# Altium schematic symbol library ra8m1_unshielded.SCHLIB: 45 symbols
Pins are listed as number, name and electrical type; pins without a type are passive.

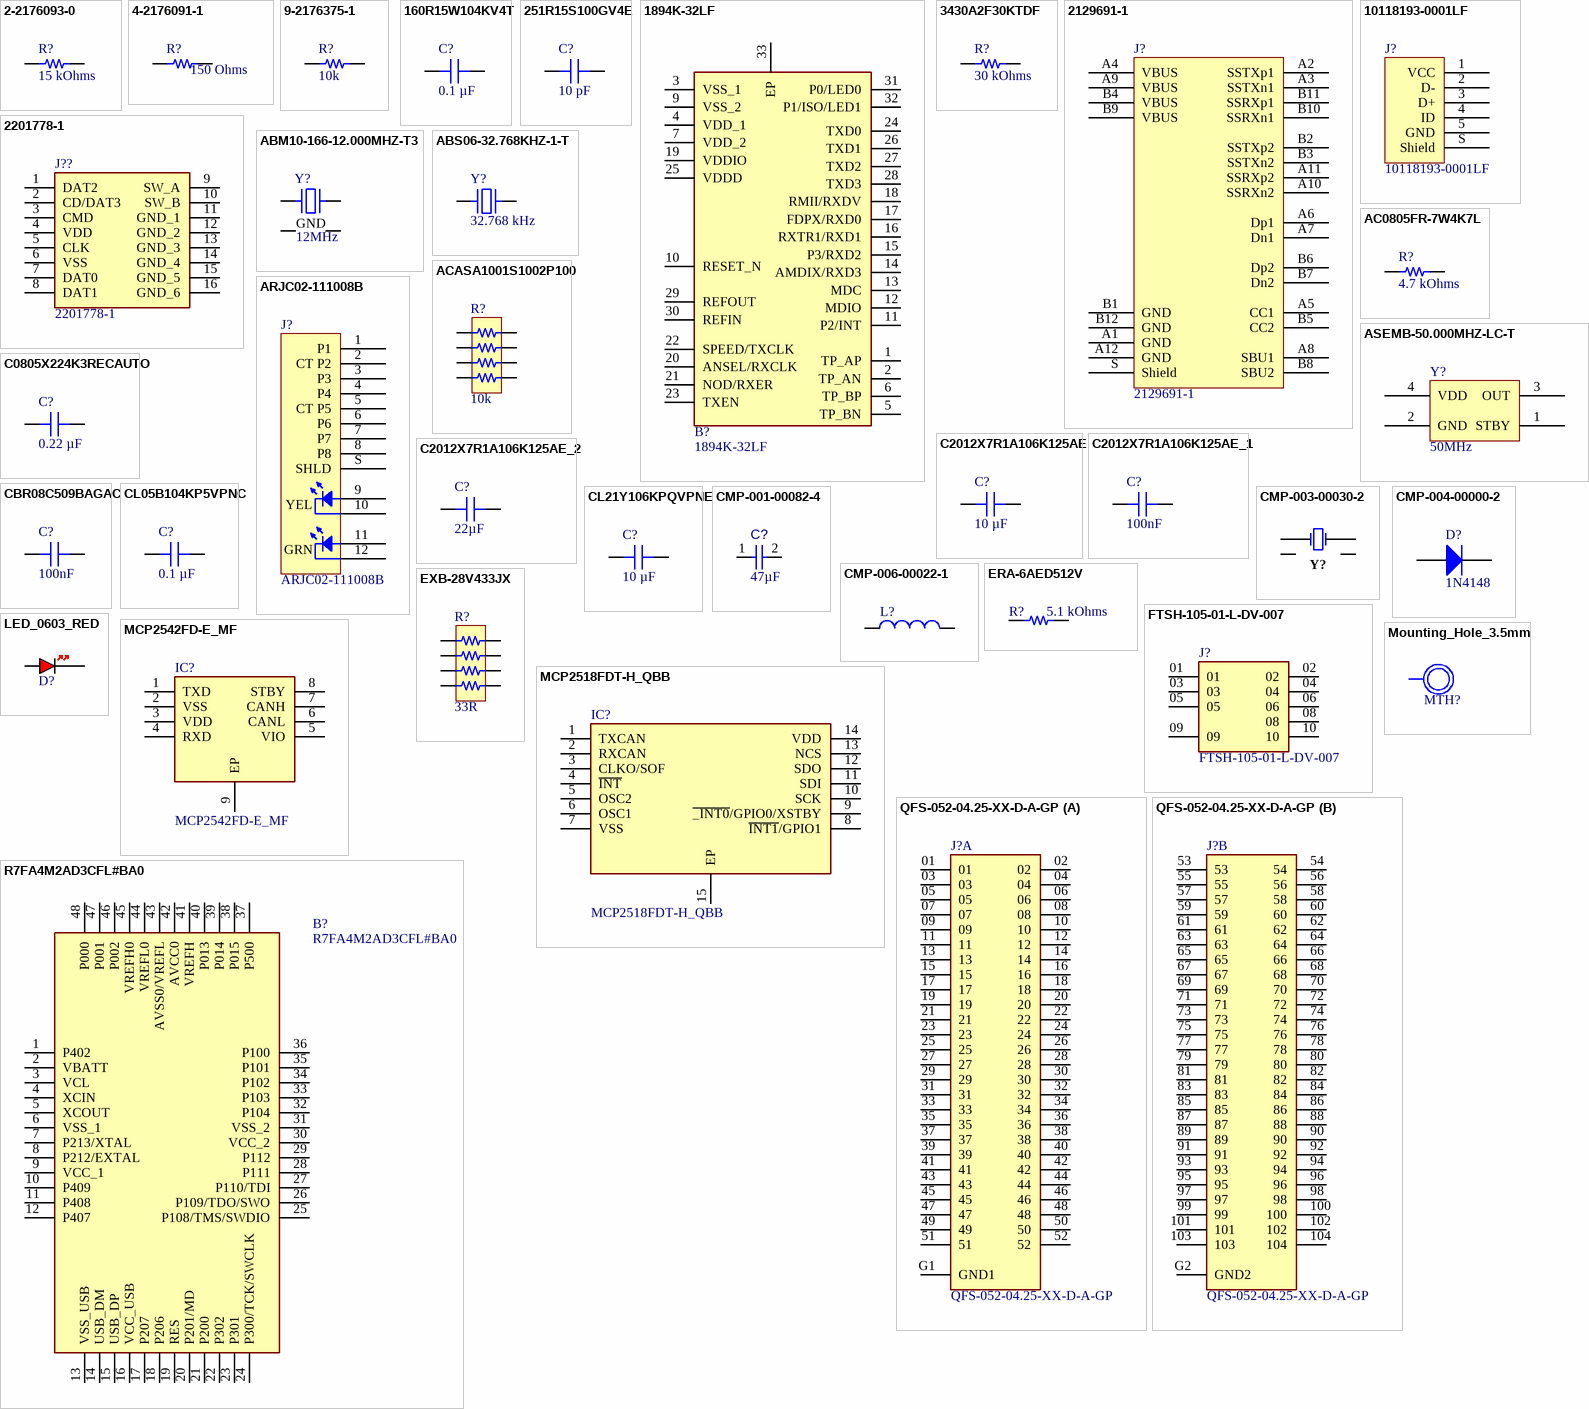
[diagram p0: symbols 2-2176093-0 to R7FA4M2AD3CFL#BA0]

## 2-2176093-0
designator R?, comment 15 kOhms
RES SMD 15K OHM 0.1% 1/4W 0805; Part Number: 2-2176093-0; Manufacturer: TE Connectivity Passive Product; Power (Watts): 0.25W, 1/4W; Temperature Coefficient: ±25ppm/°C; ComponentLink1Description: Datasheet; ComponentLink1URL: https://www.te.com/commerce/DocumentDelivery/DDEController?Action=srchrtrv&DocNm=1773272&DocType=DS&DocLang=English; ComponentLink2Description: DigiKey Link; ComponentLink2URL: https://www.digikey.com/en/products/detail/te-connectivity-passive-product/2-2176093-0/4034124; Composition: Thin Film; Device Package: 0805 (2012 Metric); Height - Seated (Max): 0.026" (0.65mm); LastUpdated: 03/02/2024 20:58:42; Lifecycle Status: Active; Minimum Order: 1; Number of Terminations: 2; Operating Temperature: -55°C ~ 155°C; Package / Case: 0805 (2012 Metric); Packaging: TapeAndReel; PartId: 44076; Part Status: Active; Price: 0.14; Resistance: 15 kOhms; Series: RP73P, Holsworthy; Size / Dimension: 0.079" L x 0.049" W (2.00mm x 1.25mm); Supplier 1: DigiKey; Supplier Part Number 1: A110656CT-ND; Supplier Device Package: 0805; Tolerance: ±0.1%; Value: 15 kOhms
footprint RES 0805_2012
pins: 1, 2

## 4-2176091-1
designator R?, comment 150 Ohms
RES SMD 150 OHM 0.1% 1/4W 0805; Part Number: 4-2176091-1; Manufacturer: TE Connectivity Passive Product; Power (Watts): 0.25W, 1/4W; Temperature Coefficient: ±25ppm/°C; Value: 150 Ohms; ComponentLink1Description: Datasheet; ComponentLink1URL: https://www.te.com/commerce/DocumentDelivery/DDEController?Action=srchrtrv&DocNm=1773272&DocType=DS&DocLang=English; ComponentLink2Description: DigiKey Link; ComponentLink2URL: https://www.digikey.com/en/products/detail/te-connectivity-passive-product/4-2176091-1/4033932; Composition: Thin Film; Device Package: 0805 (2012 Metric); Height - Seated (Max): 0.026" (0.65mm); LastUpdated: 04/02/2024 21:05:09; Lifecycle Status: Active; Minimum Order: 1; Number of Terminations: 2; Operating Temperature: -55°C ~ 155°C; Package / Case: 0805 (2012 Metric); Packaging: TapeAndReel; PartId: 28504; Part Status: Active; Price: 0.14; Resistance: 150 Ohms; Series: RP73P, Holsworthy; Size / Dimension: 0.079" L x 0.049" W (2.00mm x 1.25mm); Supplier 1: DigiKey; Supplier Part Number 1: A110464CT-ND; Supplier Device Package: 0805; Tolerance: ±0.1%
footprint RES 0805_2012
pins: 1, 2

## 9-2176375-1
designator R?, comment 10k
RES 10K OHM 0.1% 1/5W 0805; Part Number: 9-2176375-1; Manufacturer: TE Connectivity Passive Product; Power (Watts): 0.2W, 1/5W; Resistance: 10 kOhms; Temperature Coefficient: ±10ppm/°C; Value: 10k; ComponentLink1Description: Datasheet; ComponentLink1URL: https://www.te.com/usa-en/product-9-2176375-1.datasheet.pdf; ComponentLink2Description: DigiKey Link; ComponentLink2URL: https://www.digikey.com/en/products/detail/te-connectivity-passive-product/9-2176375-1/18110542; Composition: Thin Film; Device Package: 0805 (2012 Metric); Features: Anti-Sulfur, Automotive AEC-Q200, Moisture Resistant; Height - Seated (Max): 0.026" (0.65mm); LastUpdated: 04/02/2024 21:02:43; Lifecycle Status: Active; Minimum Order: 1; Number of Terminations: 2; Operating Temperature: -55°C ~ 155°C; Package / Case: 0805 (2012 Metric); Packaging: TapeAndReel; PartId: 76290; Part Status: Active; Price: 0.39; Ratings: AEC-Q200; Series: RQ73; Size / Dimension: 0.079" L x 0.049" W (2.00mm x 1.25mm); Supplier 1: DigiKey; Supplier Part Number 1: 1712-9-2176375-1CT-ND; Supplier Device Package: 0805; Tolerance: ±0.1%
footprint RES 0805_2012
pins: 1, 2

## 160R15W104KV4T
designator C?, comment 0.1 µF
CAP CER 0.1UF 16V X7R 0805; Part Number: 160R15W104KV4T; manufacturer: Johanson Dielectrics Inc.; Tolerance: ±10%; Value: 0.1 µF; Applications: General Purpose; Capacitance: 0.1 µF; componentlink1description: Datasheet; componentlink1url: https://www.johansondielectrics.com/downloads/catalog/johanson-dielectrics-product-catalog.pdf; componentlink2description: DigiKey Link; componentlink2url: https://www.digikey.com/en/products/detail/johanson-dielectrics-inc/160R15W104KV4T/1859428; Device Package: 0805 (2012 Metric); lastupdated: 03/02/2024 20:15:33; Lifecycle Status: Active; Minimum Order: 1; Mounting Type: Surface Mount, MLCC; Operating Temperature: -55°C ~ 125°C; Package / Case: 0805 (2012 Metric); packaging: TapeAndReel; partid: 9125; Part Status: Active; price: 0.03; series: -; Size / Dimension: 0.080" L x 0.050" W (2.03mm x 1.27mm); Supplier 1: DigiKey; Supplier Part Number 1: 709-1183-1-ND; Temperature Coefficient: X7R; Thickness (Max): 0.050" (1.27mm); Voltage - Rated: 16V
footprint CAP 0805_2012
pins: 1, 2

## 251R15S100GV4E
designator C?, comment 10 pF
CAP CER 10PF 250V NP0 0805; Part Number: 251R15S100GV4E; manufacturer: Johanson Technology Inc.; Temperature Coefficient: C0G, NP0; Tolerance: ±2%; Value: 10 pF; Applications: RF, Microwave, High Frequency; Capacitance: 10 pF; componentlink1description: Datasheet; componentlink1url: https://www.johansontechnology.com/downloads/catalog/johanson-technology-multi-layer-high-q-capacitors.pdf; componentlink2description: DigiKey Link; componentlink2url: https://www.digikey.com/en/products/detail/johanson-technology-inc/251R15S100GV4E/1919428; Device Package: 0805 (2012 Metric); Features: High Q, Low Loss, Ultra Low ESR; lastupdated: 03/02/2024 20:14:59; Lifecycle Status: Active; Minimum Order: 1; Mounting Type: Surface Mount, MLCC; Operating Temperature: -55°C ~ 125°C; Package / Case: 0805 (2012 Metric); packaging: TapeAndReel; partid: 18355; Part Status: Active; price: 0.14; series: S; Size / Dimension: 0.080" L x 0.050" W (2.03mm x 1.27mm); Supplier 1: DigiKey; Supplier Part Number 1: 712-1719-1-ND; Thickness (Max): 0.046" (1.17mm); Voltage - Rated: 250V
footprint CAP 0805_2012
pins: 1, 2

## 1894K-32LF
designator B?
The IDT1894-32 is a low-power, physical-layer device (PHY) that supports the ISO/IEC 10Base-T and 100Base-TX Carrier-Sense Multiple Access/Collision Detection (CSMA/CD) Ethernet standards, ISO/IEC 8802-3. The IDT1894-32 is intended for MII, Node applications that require the Auto-MDIX feature that automatically corrects crossover errors in plant wiring. The IDT1894-32 incorporates Digital-Signal Processing (DSP) control in its Physical-Medium Dependent (PMD) sub layer. As a result, it can transmit and recei; Manufacturer_Name: Renesas Electronics; Geometry.Height: 1mm; Manufacturer_Part_Number: 1894K-32LF; Mouser Part Number: 972-1894K-32LF; Mouser Price/Stock: https://www.mouser.co.uk/ProductDetail/Renesas-IDT/1894K-32LF?qs=JcGQCygHkIbsoRijcJxryA%3D%3D; Arrow Part Number: *; Arrow Price/Stock: *; Datasheet Link: https://www.idt.com/document/dst/1894-32-datasheet
footprint 1894K-32LF
pins: 1 TP_AP, 2 TP_AN, 3 VSS_1, 4 VDD_1, 5 TP_BN, 6 TP_BP, 7 VDD_2, 9 VSS_2, 10 RESET_N, 11 P2/INT, 12 MDIO, 13 MDC, 14 AMDIX/RXD3, 15 P3/RXD2, 16 RXTR1/RXD1, 17 FDPX/RXD0, 18 RMII/RXDV, 19 VDDIO, 20 ANSEL/RXCLK, 21 NOD/RXER, 22 SPEED/TXCLK, 23 TXEN, 24 TXD0, 25 VDDD, 26 TXD1, 27 TXD2, 28 TXD3, 29 REFOUT, 30 REFIN, 31 P0/LED0, 32 P1/ISO/LED1, 33 EP

## 3430A2F30KTDF
designator R?, comment 30 kOhms
3430 A2 1% 30K 100PPM 1K RL; Part Number: 3430A2F30KTDF; Manufacturer: TE Connectivity Passive Product; Power (Watts): 1W; Temperature Coefficient: ±100ppm/°C; Value: 30 kOhms; ComponentLink2Description: DigiKey Link; ComponentLink2URL: https://www.digikey.com/en/products/detail/te-connectivity-passive-product/3430A2F30KTDF/17763964; Composition: Thick Film; Device Package: 0805 (2012 Metric); Features: Automotive AEC-Q200; Height - Seated (Max): 0.026" (0.65mm); LastUpdated: 03/02/2024 20:57:30; Lifecycle Status: Active; Minimum Order: 1; Number of Terminations: 2; Operating Temperature: -55°C ~ 155°C; Package / Case: 0805 (2012 Metric); Packaging: TapeAndReel; PartId: 76016; Part Status: Active; Price: 0.02; Ratings: AEC-Q200; Resistance: 30 kOhms; Series: 3430; Size / Dimension: 0.049" L x 0.079" W (1.25mm x 2.00mm); Supplier 1: DigiKey; Supplier Part Number 1: 1712-3430A2F30KTDFCT-ND; Supplier Device Package: 0508; Tolerance: ±1%
footprint RES 0805_2012
pins: 1, 2

## 2129691-1
designator J?
CONN RCPT USB3.1 TYPEC 24POS SMD; Manufacturer: TE Connectivity AMP Connectors; Connector Type: USB - C (Type - C); Current Rating (Amps): 0.25A, 1.25A, 5A; Gender: Receptacle; Mating Cycles: 10000; Number of Contacts: 24; Number of Ports: 1; Specifications: USB 3.1 (USB 3.1 Gen 2, Superspeed+); Voltage - Rated: 30V; Part Number: 2129691-1; ComponentLink1Description: Datasheet; ComponentLink1URL: //media.digikey.com/pdf/Data%20Sheets/Tyco%20Electonics%20AMP%20PDFs/2129691_Dwg.pdf; ComponentLink2Description: DigiKey Link; ComponentLink2URL: //digikey.com/product-detail/en/te-connectivity-amp-connectors/2129691-1/A122008TR-ND/5401336; LastUpdated: 09/12/2019 20:50:18; Lifecycle Status: 0; Minimum Order: 1; Mounting Feature: Horizontal, Mid Mount; Mounting Type: Board Edge, Cutout; Surface Mount; Through Hole, Right Angle; Operating Temperature: -30°C ~ 85°C; Packaging: TapeAndReel; Part Status: Active; Price: 1.67; Series: -; Supplier 1: DigiKey; Supplier Part Number 1: A122008TR-ND; Termination: Solder
footprint TE USB-C 2129691-1
pins: A1 GND, A2 SSTXp1, A3 SSTXn1, A4 VBUS, A5 CC1, A6 Dp1, A7 Dn1, A8 SBU1, A9 VBUS, A10 SSRXn2, A11 SSRXp2, A12 GND, B1 GND, B2 SSTXp2, B3 SSTXn2, B4 VBUS, B5 CC2, B6 Dp2, B7 Dn2, B8 SBU2, B9 VBUS, B10 SSRXn1, B11 SSRXp1, B12 GND, S Shield

## 2201778-1
designator J??
Connector; Manufacturer_Name: TE Connectivity; Datasheet Link: https://www.te.com/commerce/DocumentDelivery/DDEController?Action=showdoc&DocId=Customer+Drawing%7F2201778%7FB%7Fpdf%7FJapanese%7FJPN_CD_2201778_B.pdf%7F2201778-1; Height: 1.95mm; Manufacturer_Part_Number: 2201778-1; Mouser Part Number: 571-2201778-1; Mouser Price/Stock: https://www.mouser.co.uk/ProductDetail/TE-Connectivity/2201778-1?qs=%2F6W%2F9%2FHWvcBMWWw9w8oBng%3D%3D; Arrow Part Number: 2201778-1; Arrow Price/Stock: https://www.arrow.com/en/products/2201778-1/te-connectivity?region=nac
footprint 22017781
pins: 1 DAT2, 2 CD/DAT3, 3 CMD, 4 VDD, 5 CLK, 6 VSS, 7 DAT0, 8 DAT1, 9 SW_A, 10 SW_B, 11 GND_1, 12 GND_2, 13 GND_3, 14 GND_4, 15 GND_5, 16 GND_6

## 10118193-0001LF
designator J?
CONN RCPT USB2.0 MICRO B SMD R/A; Manufacturer: Amphenol ICC (FCI); Connector Type: USB - micro B; Current Rating (Amps): 1.8A per Contact; Gender: Receptacle; Mating Cycles: 10000; Number of Contacts: 5; Number of Ports: 1; Shielding: Shielded; Voltage - Rated: 100VAC; Part Number: 10118193-0001LF; ComponentLink1Description: Datasheet; ComponentLink1URL: https://cdn.amphenol-icc.com/media/wysiwyg/files/documentation/datasheet/inputoutput/io_usb_micro.pdf; ComponentLink2Description: DigiKey Link; ComponentLink2URL: //digikey.com/product-detail/en/amphenol-icc-fci/10118193-0001LF/609-4616-2-ND/2785388; Features: Solder Retention; LastUpdated: 09/12/2019 20:51:28; Lifecycle Status: 0; Minimum Order: 1; Mounting Feature: Horizontal; Mounting Type: Surface Mount, Right Angle; Through Hole; Operating Temperature: -30°C ~ 80°C; Packaging: TapeAndReel; Part Status: Active; Price: 0.21; Series: -; Specifications: USB 2.0; Supplier 1: DigiKey; Supplier Part Number 1: 609-4616-2-ND; Termination: Solder
footprint FCI USB 10118193-0001LF
pins: 1 VCC, 2 D-, 3 D+, 4 ID, 5 GND, S Shield

## ABM10-166-12.000MHZ-T3
designator Y?, comment 12MHz
CRYSTAL 12.00MHZ 8PF LOW ESR SMD; Part Number: ABM10-166-12.000MHZ-T3; Manufacturer: Abracon LLC; ESR (Equivalent Series Resistance): 125 Ohms; Frequency Stability: ±10ppm; Operating Mode: Fundamental; ComponentLink1Description: Datasheet; ComponentLink1URL: https://abracon.com/Resonators/ABM10-166-12.000MHz.pdf; ComponentLink2Description: DigiKey Link; ComponentLink2URL: http://digikey.com/product-detail/en/abracon-llc/ABM10-166-12.000MHZ-T3/535-13520-1-ND/6140273; Device Package: 4-SMD, No Lead; Frequency: 12MHz; Frequency Tolerance: ±10ppm; Height - Seated (Max): 0.028" (0.70mm); LastUpdated: 19/03/2020 22:27:46; Lifecycle Status: Active; Load Capacitance: 8pF; Minimum Order: 1; Mounting Type: Surface Mount; Operating Temperature: -20°C ~ 70°C; Package / Case: 4-SMD, No Lead; Packaging: TapeAndReel; PartId: 285; Part Status: Active; Price: 0.28; Series: ABM10; Size / Dimension: 0.098" L x 0.079" W (2.50mm x 2.00mm); Supplier 1: DigiKey; Supplier Part Number 1: 535-13520-1-ND; Type: MHz Crystal; Value: 12MHz
footprint ABRACON ABM10
pins: 1, 2 GND, 3, 4 GND

## ABS06-32.768KHZ-1-T
designator Y?, comment 32.768 kHz
CRYSTAL 32.7680KHZ 12.5PF SMD; Part Number: ABS06-32.768KHZ-1-T; Manufacturer: Abracon LLC; ESR (Equivalent Series Resistance): 90 kOhms; Frequency Tolerance: ±10ppm; Operating Mode: Fundamental; ComponentLink1Description: Datasheet; ComponentLink1URL: https://abracon.com/Resonators/ABS06.pdf; ComponentLink2Description: DigiKey Link; ComponentLink2URL: https://www.digikey.com/en/products/detail/abracon-llc/ABS06-32-768KHZ-1-T/2217994; Frequency: 32.768 kHz; Height - Seated (Max): 0.024" (0.60mm); LastUpdated: 04/02/2024 21:38:21; Lifecycle Status: Active; Load Capacitance: 12.5pF; Minimum Order: 1; Mounting Type: Surface Mount; Operating Temperature: -40°C ~ 85°C; Package / Case: 2-SMD, No Lead; Packaging: TapeAndReel; PartId: 370; Part Status: Active; Price: 0.39; Series: ABS06; Size / Dimension: 0.079" L x 0.047" W (2.00mm x 1.20mm); Supplier 1: DigiKey; Supplier Part Number 1: 535-10248-1-ND; Type: kHz Crystal (Tuning Fork); Value: 32.768 kHz
footprint ABRACON ABS06
pins: 1, 2

## AC0805FR-7W4K7L
designator R?, comment 4.7 kOhms
RES 4.7K OHM 1% 1/4W 0805; Part Number: AC0805FR-7W4K7L; Manufacturer: Yageo; Power (Watts): 0.25W, 1/4W; Temperature Coefficient: ±100ppm/°C; Value: 4.7 kOhms; ComponentLink1Description: Datasheet; ComponentLink1URL: https://www.yageo.com/upload/media/product/productsearch/datasheet/rchip/PYu-AC_51_RoHS_L_9.pdf; ComponentLink2Description: DigiKey Link; ComponentLink2URL: https://www.digikey.com/en/products/detail/yageo/AC0805FR-7W4K7L/16989051; Composition: Thick Film; Device Package: 0805 (2012 Metric); Features: Automotive AEC-Q200, Moisture Resistant; Height - Seated (Max): 0.024" (0.60mm); LastUpdated: 04/02/2024 21:02:35; Lifecycle Status: Active; Minimum Order: 1; Number of Terminations: 2; Operating Temperature: -55°C ~ 155°C; Package / Case: 0805 (2012 Metric); Packaging: TapeAndReel; PartId: 77750; Part Status: Active; Price: 0.01; Ratings: AEC-Q200; Resistance: 4.7 kOhms; Series: AC; Size / Dimension: 0.079" L x 0.049" W (2.00mm x 1.25mm); Supplier 1: DigiKey; Supplier Part Number 1: 13-AC0805FR-7W4K7LCT-ND; Supplier Device Package: 0805; Tolerance: ±1%
footprint RES 0805_2012
pins: 1, 2

## ACASA1001S1002P100
designator R?, comment 10k
RES ARRAY 4 RES MULT OHM 1206; Part Number: ACASA1001S1002P100; Manufacturer: Vishay Beyschlag; Circuit Type: Isolated; Number of Resistors: 4; Power Per Element: 100mW; Resistance (Ohms): 1k, 10k; Resistor Matching Ratio: ±0.05%; Resistor-Ratio-Drift: ±15ppm/°C; Temperature Coefficient: ±25ppm/°C; Tolerance: ±0.1%; Applications: Voltage Divider (TCR Matched); ComponentLink1Description: Datasheet; ComponentLink1URL: http://www.vishay.com/docs/28751/acasprec.pdf; ComponentLink2Description: DigiKey Link; ComponentLink2URL: http://digikey.com/product-detail/en/vishay-beyschlag/ACASA1001S1002P100/749-1017-1-ND/4741023; Height - Seated (Max): 0.022" (0.55mm); LastUpdated: 02/02/2024 21:35:30; Lifecycle Status: Active; Minimum Order: 1; Mounting Type: Surface Mount; Number of Pins: 8; Operating Temperature: -55°C ~ 125°C; Package / Case: 1206 (3216 Metric), Convex, Long Side Terminals; Packaging: TapeAndReel; PartId: 354; Part Status: Active; Price: 0.24; Series: ACA - Precision; Size / Dimension: 0.126" L x 0.059" W (3.20mm x 1.50mm); Supplier 1: DigiKey; Supplier Part Number 1: 749-1017-1-ND
footprint RESNET 1206-8 CONVEX
pins: 1, 2, 3, 4, 5, 6, 7, 8

## ARJC02-111008B
designator J?
CONN MAGJACK 1PORT 100 BASE-TX; Manufacturer: Abracon LLC; Connector Type: RJ45; LED Color: Yellow - Green; Number of Cores per Jack: 4; Number of Ports: 1; Shielding: Shielded, EMI Finger; Tab Direction: Down; Part Number: ARJC02-111008B; Applications: 10/100 Base-TX, AutoMDIX; ComponentLink1Description: Datasheet; ComponentLink1URL: https://abracon.com/Magnetics/lan/ARJC02-111008B.PDF; ComponentLink2Description: DigiKey Link; ComponentLink2URL: http://digikey.com/product-detail/en/abracon-llc/ARJC02-111008B/535-12605-ND/4696789; Features: Board Guide; Height Above Board: 0.534" (13.55mm); LastUpdated: 15/01/2020 03:56:28; Lifecycle Status: Active; Minimum Order: 1; Mounting Type: Through Hole; Number of Rows: 1; Operating Temperature: 0°C ~ 70°C; Orientation: 90° Angle (Right); Packaging: Tray; Part Status: Active; Price: 7.80; Series: ARJC02; Supplier 1: DigiKey; Supplier Part Number 1: 535-12605-ND; Termination: Solder
footprint ABRACON ARJC02-111008B
pins: 1 P1, 2 CT P2, 3 P3, 4 P4, 5 CT P5, 6 P6, 7 P7, 8 P8, 9 P9, 10 P10, 11 P11, 12 P12, S SHLD
text: YEL; GRN

## ASEMB-50.000MHZ-LC-T
designator Y?, comment 50MHz
MEMS OSC XO 50.0000MHZ CMOS SMD; Part Number: ASEMB-50.000MHZ-LC-T; Manufacturer: Abracon LLC; Current - Supply (Max): 16mA; Frequency Stability: ±50ppm; Function: Enable/Disable; Voltage - Supply: 1.8V ~ 3.3V; Base Resonator: MEMS; ComponentLink1Description: Datasheet; ComponentLink1URL: https://abracon.com/Oscillators/ASEMB.pdf; ComponentLink2Description: DigiKey Link; ComponentLink2URL: http://digikey.com/product-detail/en/abracon-llc/ASEMB-50.000MHZ-LC-T/535-11758-1-ND/2810027; Frequency: 50MHz; Height - Seated (Max): 0.035" (0.90mm); LastUpdated: 02/02/2024 21:32:16; Lifecycle Status: Active; Minimum Order: 1; Mounting Type: Surface Mount; Operating Temperature: -40°C ~ 85°C; Output: CMOS; Package / Case: 4-SMD, No Lead; Packaging: TapeAndReel; PartId: 198; Part Status: Active; Price: 1.25; Series: ASEMB, Pure Silicon™; Size / Dimension: 0.126" L x 0.098" W (3.20mm x 2.50mm); Supplier 1: DigiKey; Supplier Part Number 1: 535-11758-1-ND; Type: XO (Standard); Value: 50MHz
footprint ABRACON ASEMB
pins: 1 STBY, 2 GND, 3 OUT, 4 VDD

## C0805X224K3RECAUTO
designator C?, comment 0.22 µF
CAP CER 0805 220NF 25V X7R 10%; Part Number: C0805X224K3RECAUTO; manufacturer: KEMET; Value: 0.22 µF; Applications: Automotive, Boardflex Sensitive, ESD Protection; Capacitance: 0.22 µF; componentlink1description: Datasheet; componentlink1url: https://connect.kemet.com:7667/gateway/IntelliData-ComponentDocumentation/1.0/download/datasheet/C0805X224K3RECAUTO; componentlink2description: DigiKey Link; componentlink2url: https://www.digikey.com/en/products/detail/kemet/C0805X224K3RECAUTO/8653353; Device Package: 0805 (2012 Metric); Features: Soft Termination; lastupdated: 04/02/2024 20:14:58; Lifecycle Status: Active; Minimum Order: 1; Mounting Type: Surface Mount, MLCC; Operating Temperature: -55°C ~ 125°C; Package / Case: 0805 (2012 Metric); packaging: TapeAndReel; partid: 48903; Part Status: Active; price: 0.05; Ratings: AEC-Q200; series: ESD SMD Auto X7R; Size / Dimension: 0.079" L x 0.049" W (2.00mm x 1.25mm); Supplier 1: DigiKey; Supplier Part Number 1: 399-C0805X224K3RECAUTOCT-ND; Temperature Coefficient: X7R; Thickness (Max): 0.055" (1.40mm); Tolerance: ±10%; Voltage - Rated: 25V
footprint CAP 0805_2012
pins: 1, 2

## C2012X7R1A106K125AE
designator C?, comment 10 µF
CAP CER 10UF 10V X7R 0805; Part Number: C2012X7R1A106K125AE; manufacturer: TDK Corporation; Tolerance: ±10%; Value: 10 µF; Applications: Boardflex Sensitive; Capacitance: 10 µF; componentlink1description: Datasheet; componentlink1url: https://product.tdk.com/info/en/catalog/datasheets/mlcc_commercial_soft_en.pdf?ref_disty=digikey; componentlink2description: DigiKey Link; componentlink2url: https://www.digikey.com/en/products/detail/tdk-corporation/C2012X7R1A106K125AE/5809181; Device Package: 0805 (2012 Metric); Features: Soft Termination; lastupdated: 30/01/2024 20:15:17; Lifecycle Status: Active; Minimum Order: 1; Mounting Type: Surface Mount, MLCC; Operating Temperature: -55°C ~ 125°C; Package / Case: 0805 (2012 Metric); packaging: TapeAndReel; partid: 3036; Part Status: Active; price: 0.07; series: C; Size / Dimension: 0.079" L x 0.049" W (2.00mm x 1.25mm); Supplier 1: DigiKey; Supplier Part Number 1: 445-173616-1-ND; Temperature Coefficient: X7R; Thickness (Max): 0.059" (1.50mm); Voltage - Rated: 10V
footprint CAP 0805_2012
pins: 1, 2

## C2012X7R1A106K125AE_1
designator C?, comment 100nF
CAP CER 10UF 10V X7R 0805; Part Number: C2012X7R1A106K125AE; manufacturer: TDK Corporation; Capacitance: 10 µF; Tolerance: ±10%; Value: 100nF; Applications: Boardflex Sensitive; componentlink1description: Datasheet; componentlink1url: https://product.tdk.com/info/en/catalog/datasheets/mlcc_commercial_soft_en.pdf?ref_disty=digikey; componentlink2description: DigiKey Link; componentlink2url: https://www.digikey.com/en/products/detail/tdk-corporation/C2012X7R1A106K125AE/5809181; Device Package: 0805 (2012 Metric); Features: Soft Termination; lastupdated: 30/01/2024 20:15:17; Lifecycle Status: Active; Minimum Order: 1; Mounting Type: Surface Mount, MLCC; Operating Temperature: -55°C ~ 125°C; Package / Case: 0805 (2012 Metric); packaging: TapeAndReel; partid: 3036; Part Status: Active; price: 0.07; series: C; Size / Dimension: 0.079" L x 0.049" W (2.00mm x 1.25mm); Supplier 1: DigiKey; Supplier Part Number 1: 445-173616-1-ND; Temperature Coefficient: X7R; Thickness (Max): 0.059" (1.50mm); Voltage - Rated: 10V
footprint CAP 0805_2012
pins: 1, 2

## C2012X7R1A106K125AE_2
designator C?, comment 22µF
CAP CER 10UF 10V X7R 0805; Part Number: C2012X7R1A106K125AE; manufacturer: TDK Corporation; Tolerance: ±10%; Value: 22µF; Applications: Boardflex Sensitive; Capacitance: 22µF; componentlink1description: Datasheet; componentlink1url: https://product.tdk.com/info/en/catalog/datasheets/mlcc_commercial_soft_en.pdf?ref_disty=digikey; componentlink2description: DigiKey Link; componentlink2url: https://www.digikey.com/en/products/detail/tdk-corporation/C2012X7R1A106K125AE/5809181; Device Package: 0805 (2012 Metric); Features: Soft Termination; lastupdated: 30/01/2024 20:15:17; Lifecycle Status: Active; Minimum Order: 1; Mounting Type: Surface Mount, MLCC; Operating Temperature: -55°C ~ 125°C; Package / Case: 0805 (2012 Metric); packaging: TapeAndReel; partid: 3036; Part Status: Active; price: 0.07; series: C; Size / Dimension: 0.079" L x 0.049" W (2.00mm x 1.25mm); Supplier 1: DigiKey; Supplier Part Number 1: 445-173616-1-ND; Temperature Coefficient: X7R; Thickness (Max): 0.059" (1.50mm); Voltage - Rated: 10V
footprint CAP 0805_2012
pins: 1, 2

## CBR08C509BAGAC
designator C?, comment 100nF
CAP CER 5PF 250V C0G/NP0 0805; Part Number: CBR08C509BAGAC; manufacturer: KEMET; Temperature Coefficient: C0G, NP0; Tolerance: ±0.1pF; Value: 100nF; Applications: RF, Microwave, High Frequency; Capacitance: 100nF; componentlink1description: Datasheet; componentlink1url: https://api.kemet.com/component-edge/download/datasheet/CBR08C509BAGAC.pdf; componentlink2description: DigiKey Link; componentlink2url: https://www.digikey.com/en/products/detail/kemet/CBR08C509BAGAC/3480211; Device Package: 0805 (2012 Metric); lastupdated: 30/01/2024 20:15:18; Lifecycle Status: Active; Minimum Order: 1; Mounting Type: Surface Mount, MLCC; Operating Temperature: -55°C ~ 125°C; Package / Case: 0805 (2012 Metric); packaging: TapeAndReel; partid: 2413; price: 0.38; series: CBR-SMD RF C0G; Supplier 1: DigiKey; Supplier Part Number 1: 399-8717-1-ND; Voltage - Rated: 250V; Features: High Q, Low Loss, Ultra Low ESR; Part Status: Active; Size / Dimension: 0.079" L x 0.049" W (2.00mm x 1.25mm); Thickness (Max): 0.037" (0.95mm)
footprint CAP 0805_2012
pins: 1, 2

## CL05B104KP5VPNC
designator C?, comment 0.1 µF
CAP CER 100NF 10V X7R 0402; Part Number: CL05B104KP5VPNC; manufacturer: Samsung Electro-Mechanics; Tolerance: ±10%; Value: 0.1 µF; Applications: Automotive; Capacitance: 0.1 µF; componentlink1description: Datasheet; componentlink1url: https://mm.digikey.com/Volume0/opasdata/d220001/medias/docus/5458/CL05B104KP5VPNC_Spec.pdf; componentlink2description: DigiKey Link; componentlink2url: https://www.digikey.com/en/products/detail/samsung-electro-mechanics/CL05B104KP5VPNC/20498482; Device Package: 0402 (1005 Metric); lastupdated: 02/02/2024 20:03:11; Lifecycle Status: Active; Minimum Order: 1; Mounting Type: Surface Mount, MLCC; Operating Temperature: -55°C ~ 125°C; Package / Case: 0402 (1005 Metric); packaging: TapeAndReel; partid: 56690; price: 0.01; Ratings: AEC-Q200; series: CL; Size / Dimension: 0.039" L x 0.020" W (1.00mm x 0.50mm); Supplier 1: DigiKey; Supplier Part Number 1: 1276-CL05B104KP5VPNCCT-ND; Temperature Coefficient: X7R; Thickness (Max): 0.022" (0.55mm); Voltage - Rated: 10V
footprint CAP 0402_1005
pins: 1, 2

## CL21Y106KPQVPNE
designator C?, comment 10 µF
CAP CER 10UF 10V X7S 0805; Part Number: CL21Y106KPQVPNE; Value: 10 µF
footprint CAP 0805_2012
pins: 1, 2

## CMP-001-00082-4
designator C?, comment value 47µF  (hidden comment: Capacitor 47µF +/-40% 6.3V 0805)
Chip Capacitor, 47µF +/-40%, 6.3V, 0805, Thickness 1.45 mm; Manufacturer: Murata; Manufacturer Part Number: GRM21BR60J476ME15K; Manufacturer: KEMET; Manufacturer Part Number: C0805C476M9PAC; Manufacturer Part Number: C0805C476M9PAC-TU; Manufacturer: Taiyo Yuden; Manufacturer Part Number: JMK212BBJ476MG-T; Manufacturer: TDK; Manufacturer Part Number: C2012X5R0J476M; Manufacturer Part Number: GRM21BR60J476ME15L; Manufacturer: Samsung; Manufacturer Part Number: CL21A476MQYNNNE; Tolerance: 10%; Min Operating Temperature: -55°C; Max Operating Temperature: 85°C; Case/Package: 0805; Pins: 2; Mounting Technology: SMT; Voltage Rating: 6.3V; Component Type: Capacitors
footprint CAPC0805(2012)145_L (Chip Capacitor, Body 2.0x1.2mm, Height 1.45mm, IPC High Density)
pins: 1, 2

## CMP-003-00030-2
designator Y?, comment ABM8-20.000MHZ-10-1-U-T  (value not drawn)
Crystal 20MHz ±10ppm (Tol) ±10ppm (Stability) 10pF FUND 50Ohm 4-Pin Ultra Mini-CSMD T/R; Manufacturer: Abracon; Manufacturer Part Number: ABM8-20.000MHZ-10-1-U-T; Component Type: Crystals & Oscillators
footprint FP-ABM8-MFG
pins: 1, 2, 3, 4

## CMP-004-00000-2
designator D?, comment 1N4148
High Speed Diode, 100 V, 0.45 A, -65 to 175 degC, 2-Pin SOD27, RoHS, Bulk; Manufacturer: Fairchild; Manufacturer: ON Semiconductor / Fairchild; Elements: 1; Recovery Time: 4ns; Forward Current: 300mA; Power: 500mW; Forward Voltage: 1V; Max Surge Current: 4A; Peak Reverse Current: 5uA; Datasheet URL: http://www.nxp.com/documents/data_sheet/1N4148_1N4448.pdf; Min Operating Temperature: -65°C; Manufacturer URL: https://www.fairchildsemi.com/; Packaging: Bulk; Diameter: 1.91mm; Pins: 2; Package URL: http://www.nxp.com/documents/data_sheet/1N4148_1N4448.pdf; Package Reference: SOD27; Max Operating Temperature: 175°C; Package Quantity: 2000; Case/Package: DO; Datasheet Version: Aug-04; RoHS Compliant: True; Manufacturer Part Number: 1N4148; Component Type: Diodes
footprint NXP-SOD27-2_V (SOD27, 2-Leads, Dia 1.85mm, Body Length 4.25mm, Pin Spacing 9mm)
pins: 1 A, 2 K

## CMP-006-00022-1
designator L?, comment 0805AF-222XJRC  (value not drawn)
General Purpose Inductor, 2.2uH, 5%, 1 Element, Ferrite-Core, SMD, 0805; Manufacturer: Coilcraft; Self Resonant Frequency: 105MHz; Max Current Rating: 350mA; Max Operating Temperature: 100°C; RoHS Compliant: Yes; Pins: 2; Min Operating Temperature: -40°C; Tolerance: 5%; Manufacturer Part Number: 0805AF-222XJRC; Component Type: Inductors
pins: 1, 2

## ERA-6AED512V
designator R?, comment 5.1 kOhms
RES SMD 5.1K OHM 0.5% 1/8W 0805; Part Number: ERA-6AED512V; Manufacturer: Panasonic Electronic Components; Power (Watts): 0.125W, 1/8W; Temperature Coefficient: ±25ppm/°C; Value: 5.1 kOhms; ComponentLink1Description: Datasheet; ComponentLink1URL: https://industrial.panasonic.com/cdbs/www-data/pdf/RDM0000/AOA0000C307.pdf; ComponentLink2Description: DigiKey Link; ComponentLink2URL: https://www.digikey.com/en/products/detail/panasonic-electronic-components/ERA-6AED512V/9373625; Composition: Thin Film; Device Package: 0805 (2012 Metric); Features: Automotive AEC-Q200; Height - Seated (Max): 0.024" (0.60mm); LastUpdated: 02/02/2024 21:00:47; Lifecycle Status: Active; Minimum Order: 1; Number of Terminations: 2; Operating Temperature: -55°C ~ 155°C; Package / Case: 0805 (2012 Metric); Packaging: TapeAndReel; PartId: 27812; Part Status: Active; Price: 0.04; Ratings: AEC-Q200; Resistance: 5.1 kOhms; Series: ERA-6A; Size / Dimension: 0.079" L x 0.049" W (2.00mm x 1.25mm); Supplier 1: DigiKey; Supplier Part Number 1: P123856CT-ND; Supplier Device Package: 0805; Tolerance: ±0.5%
footprint RES 0805_2012
pins: 1, 2

## EXB-28V433JX
designator R?, comment 33R
RES ARRAY 4 RES 43K OHM 0804; Part Number: EXB-28V433JX; Manufacturer: Panasonic Electronic Components; Circuit Type: Isolated; Number of Resistors: 4; Power Per Element: 62.5mW; Temperature Coefficient: ±200ppm/°C; Tolerance: ±5%; Applications: Automotive AEC-Q200; ComponentLink1Description: Datasheet; ComponentLink1URL: https://industrial.panasonic.com/cdbs/www-data/pdf/AOC0000/AOC0000C14.pdf; ComponentLink2Description: DigiKey Link; ComponentLink2URL: https://www.digikey.com/en/products/detail/panasonic-electronic-components/EXB-28V433JX/417403; Height - Seated (Max): 0.018" (0.45mm); LastUpdated: 02/02/2024 21:35:40; Lifecycle Status: Active; Minimum Order: 1; Mounting Type: Surface Mount; Number of Pins: 8; Operating Temperature: -55°C ~ 125°C; Package / Case: 0804, Convex, Long Side Terminals; Packaging: TapeAndReel; PartId: 428; Part Status: Active; Price: 0.03; Resistance (Ohms): 43k; Series: EXB; Size / Dimension: 0.079" L x 0.039" W (2.00mm x 1.00mm); Supplier 1: DigiKey; Supplier Part Number 1: Y7433CT-ND; Supplier Device Package: 0804
footprint RESNET 0804-8 CONVEX
pins: 1, 2, 3, 4, 5, 6, 7, 8

## FTSH-105-01-L-DV-007
designator J?
Connector Header Surface Mount 10 position 0.050 (1.27mm); MP: FTSH-105-01-L-DV-007-K; MF: Samtec; Package: None; Purchase-URL: https://pricing.snapeda.com/search/part/FTSH-105-01-L-DV-007-K/?ref=eda; Digi-Key_Part_Number: SAM13932TR-ND; Check_prices: https://www.snapeda.com/parts/FTSH-105-01-L-DV-007-K/Samtec%20Inc./view-part/448626/?ref=eda; Value: *; SnapEDA_Link: https://www.snapeda.com/parts/FTSH-105-01-L-DV-007-K/Samtec%20Inc./view-part/448626/?ref=snap
footprint SAMTEC_FTSH-105-01-L-DV-007
pins: 01, 02, 03, 04, 05, 06, 08, 09, 10

## LED_0603_RED
designator D?, comment RED  (value not drawn)
Yellow Plox
footprint LED_0603_RED
pins: A, K

## MCP2518FDT-H_QBB
designator IC?
Integrated Circuit; Manufacturer_Name: Microchip; Manufacturer_Part_Number: MCP2518FDT-H/QBB; Datasheet Link: https://www.mouser.in/datasheet/2/268/MCP2518FD-Data-Sheet-20006027A-1596921.pdf; Height: 0.9mm; Mouser Part Number: 579-MCP2518FDT-H/QBB; Mouser Price/Stock: https://www.mouser.co.uk/ProductDetail/Microchip-Technology/MCP2518FDT-H-QBB?qs=T3oQrply3y8bDZ20CsIcGQ%3D%3D; Arrow Part Number: MCP2518FDT-H/QBB; Arrow Price/Stock: https://www.arrow.com/en/products/mcp2518fdt-hqbb/microchip-technology?region=nac
footprint SON65P300X450X90-15N-D
pins: 1 TXCAN, 2 RXCAN, 3 CLKO/SOF, 4 ~{INT}, 5 OSC2, 6 OSC1, 7 VSS, 8 ~{INT1}/GPIO1, 9 ~{_INT0}/GPIO0/XSTBY, 10 SCK, 11 SDI, 12 SDO, 13 NCS, 14 VDD, 15 EP

## MCP2542FD-E_MF
designator IC?
Integrated Circuit; Manufacturer_Name: Microchip; Manufacturer_Part_Number: MCP2542FD-E/MF; Datasheet Link: http://ww1.microchip.com/downloads/en/devicedoc/20005514a.pdf; Height: 1mm; Mouser Part Number: 579-MCP2542FD-E/MF; Mouser Price/Stock: https://www.mouser.co.uk/ProductDetail/Microchip-Technology-Atmel/MCP2542FD-E-MF?qs=l7cgNqFNU1jog4BwTzULBw%3D%3D; Arrow Part Number: MCP2542FD-E/MF; Arrow Price/Stock: https://www.arrow.com/en/products/mcp2542fd-emf/microchip-technology?region=nac
footprint SON65P300X300X100-9N-D
pins: 1 TXD, 2 VSS, 3 VDD, 4 RXD, 5 VIO, 6 CANL, 7 CANH, 8 STBY, 9 EP

## Mounting_Hole_3.5mm
designator MTH?  (value not drawn)
footprint Mounting_Hole_3.5mm
pins: 1

## QFS-052-04.25-XX-D-A-GP
designator J?
CONN RCPT 104POS SMD GOLD; Availability: Unavailable; Package: None; MP: QFS-052-04.25-XX-D-A-GP; Value: *; Price: None
footprint SAMTEC_QFS-052-04.25-XX-D-A-GP
part A pins: 01, 02, 03, 04, 05, 06, 07, 08, 09, 10, 11, 12, 13, 14, 15, 16, 17, 18, 19, 20, 21, 22, 23, 24, 25, 26, 27, 28, 29, 30, 31, 32, 33, 34, 35, 36, 37, 38, 39, 40, 41, 42, 43, 44, 45, 46, 47, 48, 49, 50, 51, 52, G1 GND1 (power)
part B pins: 53, 54, 55, 56, 57, 58, 59, 60, 61, 62, 63, 64, 65, 66, 67, 68, 69, 70, 71, 72, 73, 74, 75, 76, 77, 78, 79, 80, 81, 82, 83, 84, 85, 86, 87, 88, 89, 90, 91, 92, 93, 94, 95, 96, 97, 98, 99, 100, 101, 102, 103, 104, G2 GND2 (power)

## R7FA4M2AD3CFL#BA0
designator B?
The Renesas RA4M2 group of 32-bit microcontrollers (MCUs) uses the high-performance Arm Cortex-M33 core with TrustZone. In concert with the secure crypto engine, it offers secure element functionality. The RA4M2 is built on a highly efficient 40nm process and is supported by an open and flexible ecosystem conceptthe Flexible Software Package (FSP), built on FreeRTOSand is expandable to use other RTOSes and middleware. The RA4M2 is suitable for IoT applications requiring vast communication options, futur; Manufacturer_Name: Renesas Electronics; Geometry.Height: 1.7mm; Manufacturer_Part_Number: R7FA4M2AD3CFL#BA0; Mouser Part Number: 968-R7FA4M2AD3CFLBA0; Mouser Price/Stock: https://www.mouser.co.uk/ProductDetail/Renesas-Electronics/R7FA4M2AD3CFLBA0?qs=63Lh8XYXgju%252BRagHRVe0qQ%3D%3D; Arrow Part Number: *; Arrow Price/Stock: *; Datasheet Link: https://www.renesas.com/us/en/document/dst/ra4m2-group-datasheet?r=1469026
footprint QFP50P900X900X170-48N
pins: 1 P402, 2 VBATT, 3 VCL, 4 XCIN, 5 XCOUT, 6 VSS_1, 7 P213/XTAL, 8 P212/EXTAL, 9 VCC_1, 10 P409, 11 P408, 12 P407, 13 VSS_USB, 14 USB_DM, 15 USB_DP, 16 VCC_USB, 17 P207, 18 P206, 19 RES, 20 P201/MD, 21 P200, 22 P302, 23 P301, 24 P300/TCK/SWCLK, 25 P108/TMS/SWDIO, 26 P109/TDO/SWO, 27 P110/TDI, 28 P111, 29 P112, 30 VCC_2, 31 VSS_2, 32 P104, 33 P103, 34 P102, 35 P101, 36 P100, 37 P500, 38 P015, 39 P014, 40 P013, 41 VREFH, 42 AVCC0, 43 AVSS0/VREFL, 44 VREFL0, 45 VREFH0, 46 P002, 47 P001, 48 P000

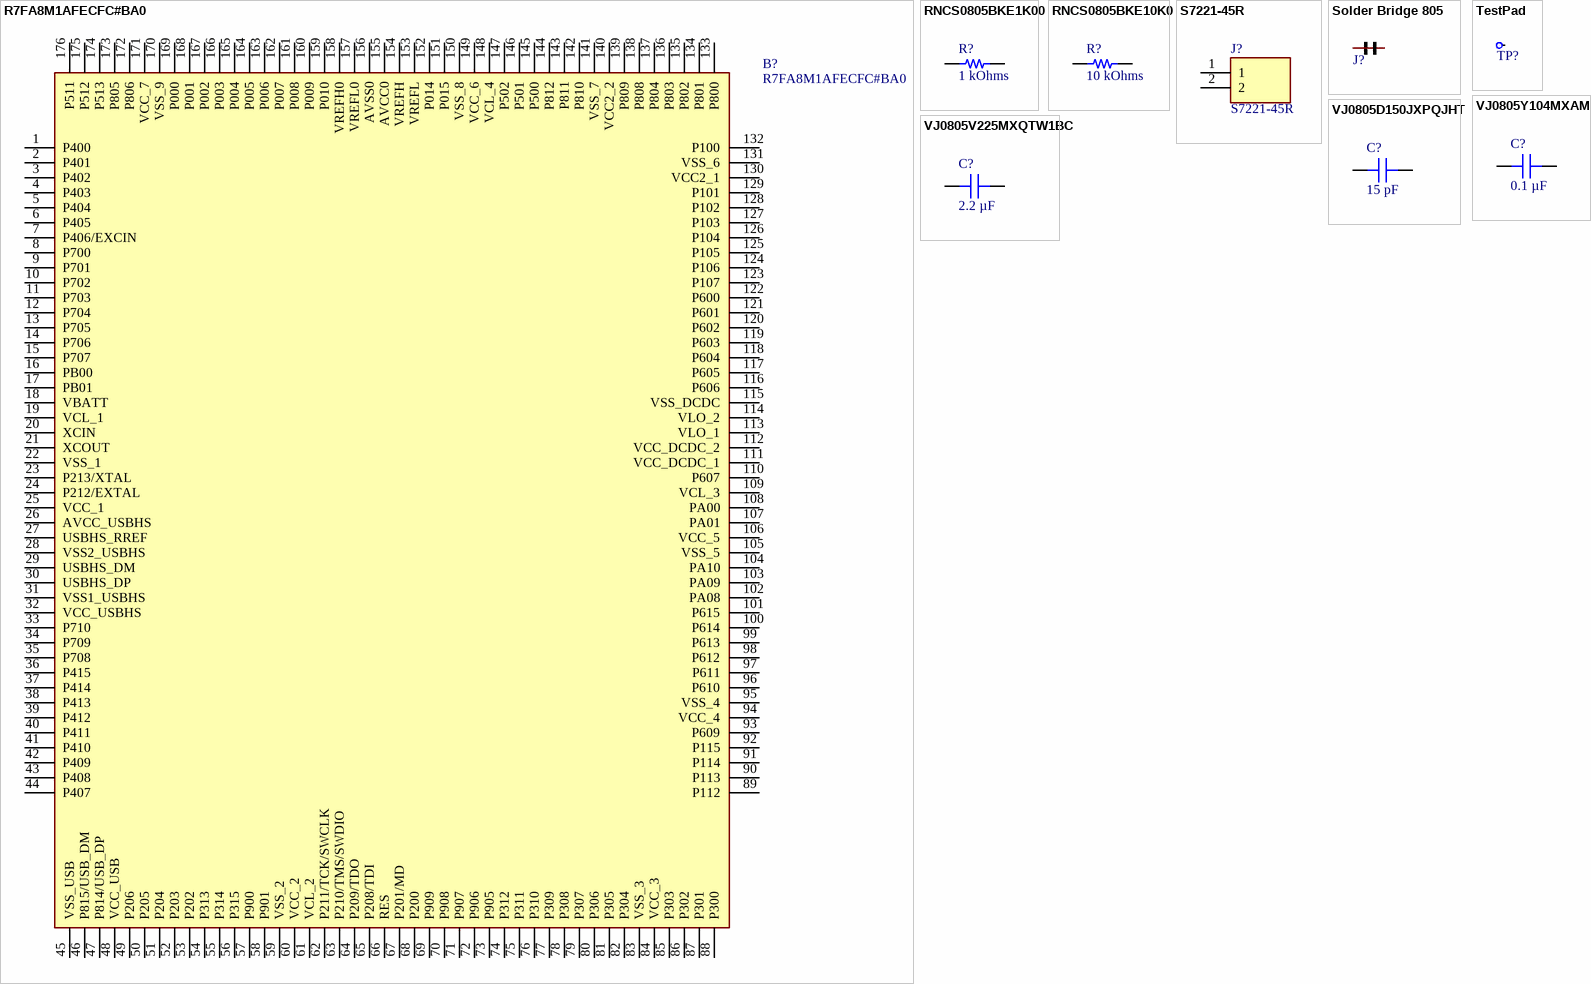
[diagram p1: symbols R7FA8M1AFECFC#BA0 to VJ0805Y104MXAMR]

## R7FA8M1AFECFC#BA0
designator B?
-40/+125C ARM Microcontrollers - MCU MCU RA8M1 ARM CM85 1M LQFP176 Package; Manufacturer_Name: Renesas Electronics; Geometry.Height: 1.6mm; Manufacturer_Part_Number: R7FA8M1AFECFC#BA0; Mouser Part Number: *; Mouser Price/Stock: *; Arrow Part Number: *; Arrow Price/Stock: *; Datasheet Link: https://www.renesas.com/eu/en/document/dst/ra8m1-group-datasheet?r=25447396
footprint QFP50P2600X2600X160-176N
pins: 1 P400, 2 P401, 3 P402, 4 P403, 5 P404, 6 P405, 7 P406/EXCIN, 8 P700, 9 P701, 10 P702, 11 P703, 12 P704, 13 P705, 14 P706, 15 P707, 16 PB00, 17 PB01, 18 VBATT, 19 VCL_1, 20 XCIN, 21 XCOUT, 22 VSS_1, 23 P213/XTAL, 24 P212/EXTAL, 25 VCC_1, 26 AVCC_USBHS, 27 USBHS_RREF, 28 VSS2_USBHS, 29 USBHS_DM, 30 USBHS_DP, 31 VSS1_USBHS, 32 VCC_USBHS, 33 P710, 34 P709, 35 P708, 36 P415, 37 P414, 38 P413, 39 P412, 40 P411, 41 P410, 42 P409, 43 P408, 44 P407, 45 VSS_USB, 46 P815/USB_DM, 47 P814/USB_DP, 48 VCC_USB, 49 P206, 50 P205, 51 P204, 52 P203, 53 P202, 54 P313, 55 P314, 56 P315, 57 P900, 58 P901, 59 VSS_2, 60 VCC_2, 61 VCL_2, 62 P211/TCK/SWCLK, 63 P210/TMS/SWDIO, 64 P209/TDO, 65 P208/TDI, 66 RES, 67 P201/MD, 68 P200, 69 P909, 70 P908, 71 P907, 72 P906, 73 P905, 74 P312, 75 P311, 76 P310, 77 P309, 78 P308, 79 P307, 80 P306, 81 P305, 82 P304, 83 VSS_3, 84 VCC_3, 85 P303, 86 P302, 87 P301, 88 P300, 89 P112, 90 P113, 91 P114, 92 P115, 93 P609, 94 VCC_4, 95 VSS_4, 96 P610, 97 P611, 98 P612, 99 P613, 100 P614, 101 P615, 102 PA08, 103 PA09, 104 PA10, 105 VSS_5, 106 VCC_5, 107 PA01, 108 PA00, 109 VCL_3, 110 P607, 111 VCC_DCDC_1, 112 VCC_DCDC_2, 113 VLO_1, 114 VLO_2, 115 VSS_DCDC, 116 P606, 117 P605, 118 P604, 119 P603, 120 P602, 121 P601, 122 P600, 123 P107, 124 P106, 125 P105, 126 P104, 127 P103, 128 P102, 129 P101, 130 VCC2_1, 131 VSS_6, 132 P100, 133 P800, 134 P801, 135 P802, 136 P803, 137 P804, 138 P808, 139 P809, 140 VCC2_2, 141 VSS_7, 142 P810, 143 P811, 144 P812, 145 P500, 146 P501, 147 P502, 148 VCL_4, 149 VCC_6, 150 VSS_8, 151 P015, 152 P014, 153 VREFL, 154 VREFH, 155 AVCC0, 156 AVSS0, 157 VREFL0, 158 VREFH0, 159 P010, 160 P009, 161 P008, 162 P007, 163 P006, 164 P005, 165 P004, 166 P003, 167 P002, 168 P001, 169 P000, 170 VSS_9, 171 VCC_7, 172 P806, 173 P805, 174 P513, 175 P512, 176 P511

## RNCS0805BKE1K00
designator R?, comment 1 kOhms
RES 1K OHM 0.1% 1/10W 0805; Part Number: RNCS0805BKE1K00; Manufacturer: Stackpole Electronics Inc; Power (Watts): 0.1W, 1/10W; Temperature Coefficient: ±25ppm/°C; Value: 1 kOhms; ComponentLink1Description: Datasheet; ComponentLink1URL: https://www.seielect.com/catalog/sei-rncs_rnch.pdf; ComponentLink2Description: DigiKey Link; ComponentLink2URL: https://www.digikey.com/en/products/detail/stackpole-electronics-inc/RNCS0805BKE1K00/1800073; Composition: Thin Film; Device Package: 0805 (2012 Metric); Features: Anti-Corrosive, Automotive AEC-Q200, Moisture Resistant; Height - Seated (Max): 0.026" (0.65mm); LastUpdated: 02/02/2024 21:00:48; Lifecycle Status: Active; Minimum Order: 1; Number of Terminations: 2; Operating Temperature: -55°C ~ 155°C; Package / Case: 0805 (2012 Metric); Packaging: TapeAndReel; PartId: 27715; Part Status: Active; Price: 0.07; Ratings: AEC-Q200; Resistance: 1 kOhms; Series: RNCS; Size / Dimension: 0.079" L x 0.049" W (2.00mm x 1.25mm); Supplier 1: DigiKey; Supplier Part Number 1: RNCS0805BKE1K00CT-ND; Supplier Device Package: 0805; Tolerance: ±0.1%
footprint RES 0805_2012
pins: 1, 2

## RNCS0805BKE10K0
designator R?, comment 10 kOhms
RES 10K OHM 0.1% 1/10W 0805; Part Number: RNCS0805BKE10K0; Manufacturer: Stackpole Electronics Inc; Power (Watts): 0.1W, 1/10W; Temperature Coefficient: ±25ppm/°C; Value: 10 kOhms; ComponentLink1Description: Datasheet; ComponentLink1URL: https://www.seielect.com/catalog/sei-rncs_rnch.pdf; ComponentLink2Description: DigiKey Link; ComponentLink2URL: https://www.digikey.com/en/products/detail/stackpole-electronics-inc/RNCS0805BKE10K0/1800067; Composition: Thin Film; Device Package: 0805 (2012 Metric); Features: Anti-Corrosive, Automotive AEC-Q200, Moisture Resistant; Height - Seated (Max): 0.026" (0.65mm); LastUpdated: 02/02/2024 21:00:48; Lifecycle Status: Active; Minimum Order: 1; Number of Terminations: 2; Operating Temperature: -55°C ~ 155°C; Package / Case: 0805 (2012 Metric); Packaging: TapeAndReel; PartId: 27713; Part Status: Active; Price: 0.07; Ratings: AEC-Q200; Resistance: 10 kOhms; Series: RNCS; Size / Dimension: 0.079" L x 0.049" W (2.00mm x 1.25mm); Supplier 1: DigiKey; Supplier Part Number 1: RNCS0805BKE10K0CT-ND; Supplier Device Package: 0805; Tolerance: ±0.1%
footprint RES 0805_2012
pins: 1, 2

## S7221-45R
designator J?
EMI Gaskets, Sheets, Absorbers & Shielding EMC Spring Contact 1.23mm high; Manufacturer_Name: Harwin; Manufacturer_Part_Number: S7221-45R; Mouser Part Number: 855-S7221-45R; Mouser Price/Stock: https://www.mouser.co.uk/ProductDetail/Harwin/S7221-45R?qs=pffCcXpkxLxI%252B2oy4ryQHw%3D%3D; Arrow Part Number: *; Arrow Price/Stock: *; Datasheet Link: https://cdn.harwin.com/pdfs/S7221-45R.pdf; Geometry.Height: 1.23mm
footprint S722145R
pins: 1, 2

## Solder Bridge 805
designator J?, comment A solder Bridge  (value not drawn)
footprint Solder Bridge 805 (Closed Solder Bridge)
pins: P0, P1

## TestPad
designator TP?  (value not drawn)
footprint Test Pad Small (A small test pad for HF applications)
pins: P2

## VJ0805D150JXPQJHT
designator C?, comment 15 pF
CAP CER 15PF 250V C0G/NP0 0805; Part Number: VJ0805D150JXPQJHT; manufacturer: Vishay Vitramon; Temperature Coefficient: C0G, NP0; Tolerance: ±5%; Value: 15 pF; Applications: RF, Microwave, High Frequency; Capacitance: 15 pF; componentlink1description: Datasheet; componentlink1url: https://www.vishay.com/docs/45239/vjhifreqht.pdf; componentlink2description: DigiKey Link; componentlink2url: https://www.digikey.com/en/products/detail/vishay-vitramon/VJ0805D150JXPQJHT/14292748; Device Package: 0805 (2012 Metric); Features: High Temperature; lastupdated: 04/02/2024 20:15:19; Lifecycle Status: Active; Minimum Order: 1; Mounting Type: Surface Mount, MLCC; Operating Temperature: -55°C ~ 200°C; Package / Case: 0805 (2012 Metric); packaging: TapeAndReel; partid: 31685; Part Status: Active; price: 0.11; series: VJ HIFREQ HT; Size / Dimension: 0.079" L x 0.049" W (2.00mm x 1.25mm); Supplier 1: DigiKey; Supplier Part Number 1: 720-VJ0805D150JXPQJHTCT-ND; Thickness (Max): 0.057" (1.45mm); Voltage - Rated: 250V
footprint CAP 0805_2012
pins: 1, 2

## VJ0805V225MXQTW1BC
designator C?, comment 2.2 µF
CAP CER 2.2UF 10V Y5V 0805; Part Number: VJ0805V225MXQTW1BC; manufacturer: Vishay Vitramon; Temperature Coefficient: Y5V (F); Tolerance: ±20%; Value: 2.2 µF; Applications: General Purpose; Capacitance: 2.2 µF; componentlink1description: Datasheet; componentlink1url: https://www.vishay.com/docs/28548/vjw1bcbascomseries.pdf; componentlink2description: DigiKey Link; componentlink2url: https://www.digikey.com/en/products/detail/vishay-vitramon/VJ0805V225MXQTW1BC/8310634; Device Package: 0805 (2012 Metric); lastupdated: 04/02/2024 20:15:35; Lifecycle Status: Active; Minimum Order: 1; Mounting Type: Surface Mount, MLCC; Operating Temperature: -25°C ~ 85°C; Package / Case: 0805 (2012 Metric); packaging: TapeAndReel; partid: 26419; Part Status: Active; price: 0.06; series: VJ; Size / Dimension: 0.079" L x 0.049" W (2.00mm x 1.25mm); Supplier 1: DigiKey; Supplier Part Number 1: 720-VJ0805V225MXQTW1BCCT-ND; Thickness (Max): 0.053" (1.35mm); Voltage - Rated: 10V
footprint CAP 0805_2012
pins: 1, 2

## VJ0805Y104MXAMR
designator C?, comment 0.1 µF
CAP CER 0.1UF 50V X7R 0805; Part Number: VJ0805Y104MXAMR; manufacturer: Vishay Vitramon; Tolerance: ±20%; Value: 0.1 µF; Applications: General Purpose; Capacitance: 0.1 µF; componentlink1description: Datasheet; componentlink1url: http://www.vishay.com/docs/45199/vjcommercialseries.pdf; componentlink2description: DigiKey Link; componentlink2url: https://www.digikey.com/en/products/detail/vishay-vitramon/VJ0805Y104MXAMR/8311084; Device Package: 0805 (2012 Metric); lastupdated: 04/02/2024 20:15:56; Lifecycle Status: Active; Minimum Order: 1; Mounting Type: Surface Mount, MLCC; Operating Temperature: -55°C ~ 150°C; Package / Case: 0805 (2012 Metric); packaging: TapeAndReel; partid: 14439; Part Status: Active; price: 0.09; series: VJ; Size / Dimension: 0.079" L x 0.049" W (2.00mm x 1.25mm); Supplier 1: DigiKey; Supplier Part Number 1: 720-1755-1-ND; Temperature Coefficient: X7R; Thickness (Max): 0.057" (1.45mm); Voltage - Rated: 50V
footprint CAP 0805_2012
pins: 1, 2